# Altium footprint library NUWCBallastBOMFootprints.PcbLib: 22 footprints (part 1 of 2)
Each footprint in its own frame and in the unit in brackets; x right, y up, seen from the top. Pads: shape width x height; smd on the part's side, far side on the other; paste and mask are expansions set on the pad; w line width, h text height; cw(c..) or ccw(c..) is an arc to the next point about the centre after c.
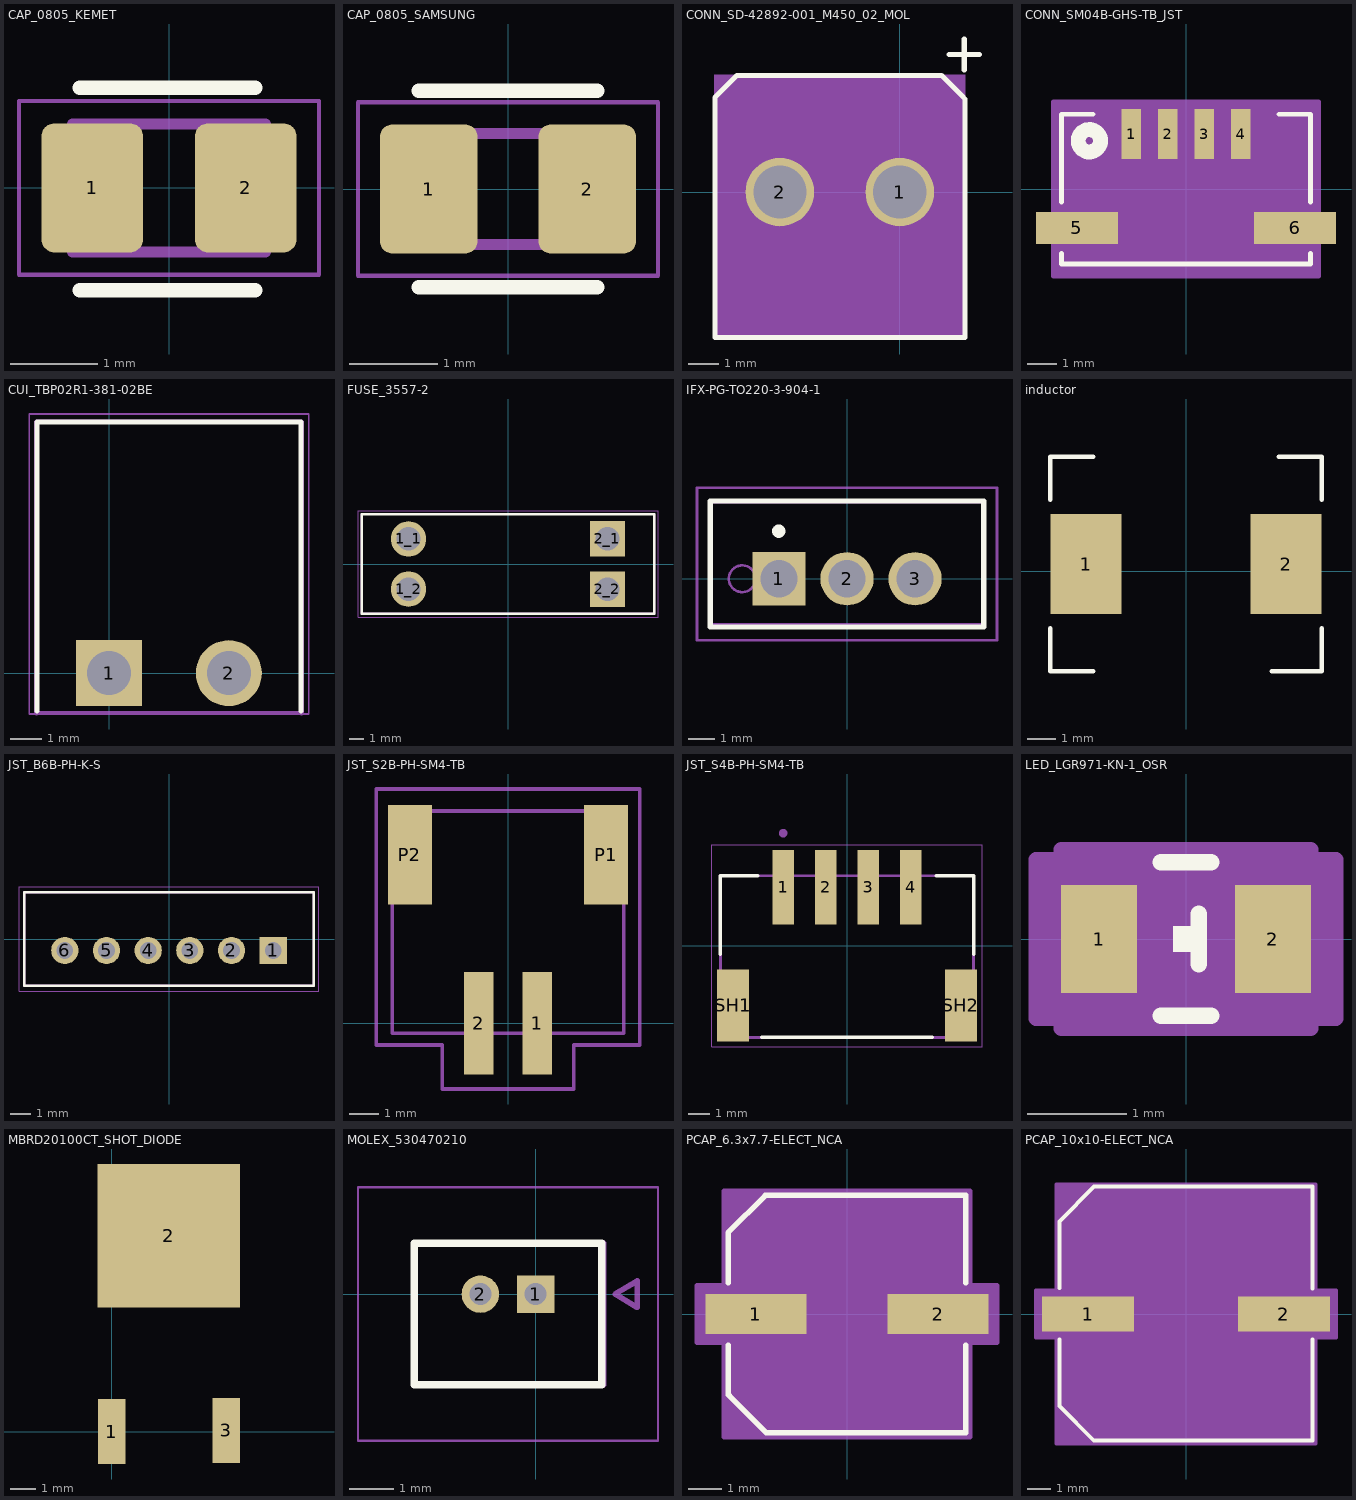
[diagram p0: the footprints below, top view; thin cyan lines are the x and y axes]

## CAP_0805_KEMET [mm]
pads (2):
  rrect25% 1.16x1.47 smd: 1(-0.875,0) 2(0.875,0)
Top Overlay:
  lines w0.165: -1.016,-1.168 0.984,-1.168 ; -1.016,1.143 0.984,1.143
Mechanical 13:
  lines w0: -0.356,-0.737 0.356,-0.737
  lines w0.127: -1.1,-0.73 -1.1,0.73 1.1,0.73 1.1,-0.73 -1.1,-0.73
Mechanical 15:
  lines w0.05: -1.71,-0.99 -1.71,0.99 1.71,0.99 1.71,-0.99 -1.71,-0.99
3D body "step_temp.STEP": height 0.88, standoff 0, extent -1,-0.625 1,0.625

## CAP_0805_SAMSUNG [mm]
pads (2):
  rrect25% 1.11x1.47 smd: 1(-0.9,0) 2(0.9,0)
Top Overlay:
  lines w0.165: -1.016,-1.118 1.016,-1.118 ; -1.016,1.118 1.016,1.118
Mechanical 13:
  lines w0.127: -1,-0.63 1,-0.63 1,0.63 -1,0.63 -1,-0.63
Mechanical 15:
  lines w0.05: -1.705,-0.985 1.705,-0.985 1.705,0.985 -1.705,0.985 -1.705,-0.985
3D body "step_temp.STEP": height 1.45, standoff 0, extent -1,-0.625 1,0.625

## CONN_SD-42892-001_M450_02_MOL [mil]
pads (2):
  round 89 hole 69 paste-99999 mask+0: 1(0,0) 2(-155.91,0)
Top Overlay:
  lines w6.5: 63.74,178.85 103.74,178.85 ; 82.68,123.03 54.13,151.57 -211.61,151.57 -240.16,123.03 -240.16,-188.98 84.65,-188.98 84.65,121.06 ; 83.74,158.85 83.74,198.85
Mechanical 13:
  circle w20: c0,0 r15
  lines w1: -230.95,46.48 75.05,46.48
Mechanical 15:
  region: 85.05,152.56 -240.95,152.56 -240.95,-190.94 85.05,-190.94
3D body "B2P-VH--3DModel-STEP-56544.STEP": height 449.13, standoff -125.67, extent -232.68,-187.01 76.77,147.64

## CONN_SM04B-GHS-TB_JST [mil]
pads (6):
  rect 26x67 smd paste+0 mask+0: 1(-73.82,73.85) 2(-24.61,73.85) 3(24.61,73.85) 4(73.82,73.85)
  rect 110x43 smd paste-55 mask-55: 5(-146.65,-52.14) 6(146.65,-52.14)
Top Overlay:
  circle w20: c-129.92,64.96 r15
  lines w6.5: -167.5,-86.74 -167.5,-100.5 167.5,-100.5 167.5,-86.74 ; -167.5,-17.54 -167.5,100.5 -125,100.5 ; 125,100.5 167.5,100.5 167.5,-17.54
Mechanical 13:
  lines w1: -162.5,-95.5 162.5,-95.5 162.5,95.5 -162.5,95.5 -162.5,-95.5
Mechanical 15:
  region: 178.15,117.35 -178.15,117.35 -178.15,-117.14 178.15,-117.14
  lines w6: -178.15,-117.14 -178.15,117.35 178.15,117.35 178.15,-117.14 -178.15,-117.14
3D body "SM04B-GHS-TB.STEP": height 167.32, standoff 0, extent -162.4,-105.63 162.4,85.32

## CUI_TBP02R1-381-02BE [mm]
pads (2):
  rect 2.1x2.1 / inner round 2.1 / far side rect 2.1x2.1 hole 1.4: 1(0,0)
  round 2.1 hole 1.4: 2(3.81,0)
Top Overlay:
  lines w0.165: -2.3,-1.2 -2.3,8 6.11,8 6.11,-1.2
Mechanical 13:
  lines w0.127: -2.311,-1.27 6.121,-1.27
  lines w0.152: -2.311,-1.27 -2.311,8 6.121,8 6.121,-1.27
Mechanical 15:
  lines w0.05: -2.55,-1.3 -2.55,8.25 6.36,8.25 6.36,-1.3 -2.55,-1.3
3D body "step_temp.STEP": height 7.52, standoff -3.17, extent -2.235,-1.298 6.175,7.902

## FUSE_3557-2 [mm]
height 7.37
pads (4):
  round 2.4 hole 1.6: 1_1(-6.735,1.7) 1_2(-6.735,-1.7)
  rect 2.4x2.4 hole 1.6: 2_1(6.735,1.7) 2_2(6.735,-1.7)
Top Overlay:
  lines w0.165: -9.905,-3.365 9.905,-3.365 9.905,3.365 -9.905,3.365 -9.905,-3.365
Mechanical 13:
  lines w0.152: -9.905,-3.365 9.905,-3.365 9.905,3.378 -9.905,3.378 -9.905,-3.365
Mechanical 15:
  lines w0.05: -10.155,-3.615 -10.155,3.615 10.155,3.615 10.155,-3.615 -10.155,-3.615
3D body "step_temp.STEP": height 7.37, standoff -2.79, extent -9.93,-3.377 9.88,3.353

## IFX-PG-TO220-3-904-1 [mm] "TO,flange mount,2.54 mm pitch, 3 pin, 10.16 mm L X 4.57 mm W X 20.56 mm H body"
height 20.56
pads (3):
  rect 1.99x1.99 hole 1.39: 1(-2.54,0)
  round 1.99 hole 1.39: 2(0,0) 3(2.54,0)
Top Overlay:
  circle w0.25: c-2.55,1.775 r0.125
  lines w0.2: -5.1,-1.8 -5.1,2.9 5.1,2.9 5.1,-1.8 -5.1,-1.8
Mechanical 3:
  text ".DESIGNATOR" at 1,4 h1.2
Mechanical 13:
  circle w0.1: c-3.912,0 r0.5
  lines w0.1: -5.08,-1.71 -5.08,2.86 5.08,2.86 5.08,-1.71 -5.08,-1.71
Mechanical 15:
  lines w0.1: -0.5,0 0.5,0 ; 0,-0.5 0,0.5 ; -5.6,-2.3 -5.6,3.4 5.6,3.4 5.6,-2.3 -5.6,-2.3
3D body "PG-TO220-3-904_Z8B00198139_V06_3D.stp": height 19.84, standoff -10.77, extent -5.156,-1.72 5.156,2.86

## inductor [mm]
pads (2):
  rect 2.5x3.5 smd: 1(-3.5,0.25) 2(3.5,0.25)
Top Overlay:
  lines w0.165: -4.75,-2 -4.75,-3.5 -3.25,-3.5 ; -4.75,2.5 -4.75,4 -3.25,4 ; 3,-3.5 4.75,-3.5 4.75,-2 ; 3.25,4 4.75,4 4.75,2.5
3D body: height 4, standoff 0, extent -4.572,-3.302 4.572,3.81

## JST_B6B-PH-K-S [mm]
pads (6):
  rect 1.308x1.308 / inner round 1.308 / far side rect 1.308x1.308 hole 0.8: 1(5,-0.55)
  round 1.308 hole 0.8: 2(3,-0.55) 3(1,-0.55) 4(-1,-0.55) 5(-3,-0.55) 6(-5,-0.55)
Top Overlay:
  lines w0.127: -6.95,-2.25 -6.95,2.25 6.95,2.25 6.95,-2.25 -6.95,-2.25
Mechanical 13:
  lines w0.127: -6.95,-2.25 6.95,-2.25 6.95,2.25 -6.95,2.25 -6.95,-2.25
Mechanical 15:
  lines w0.05: -7.2,-2.5 7.2,-2.5 7.2,2.5 -7.2,2.5 -7.2,-2.5
3D body "step_temp.STEP": height 6, standoff -3.4, extent -6.95,-2.25 6.95,2.25

## JST_S2B-PH-SM4-TB [mm]
pads (4):
  rect 1x3.5 smd: 1(1,0) 2(-1,0)
  rect 1.5x3.4 smd: P1(3.35,5.75) P2(-3.35,5.75)
Mechanical 13:
  lines w0.127: -3.95,-0.35 3.95,-0.35 3.95,7.25 -3.95,7.25 -3.95,-0.35
Mechanical 15:
  lines w0.127: -4.5,-0.75 -2.25,-0.75 -2.25,-2.25 2.25,-2.25 2.25,-0.75 4.5,-0.75 4.5,8 -4.5,8 -4.5,-0.75
3D body "step_temp.STEP": height 5.7, standoff 0.1, extent -3.95,-1.234 3.95,7.366

## JST_S4B-PH-SM4-TB [mm]
height 5.5
pads (6):
  rect 1x3.5 smd: 1(-3,2.75) 2(-1,2.75) 3(1,2.75) 4(3,2.75)
  rect 1.5x3.4 smd: SH1(-5.35,-2.8) SH2(5.35,-2.8)
Top Overlay:
  lines w0.165: -5.95,-0.4 -5.95,3.3 -4.2,3.3 ; -4,-4.3 4,-4.3 ; 4.2,3.3 5.95,3.3 5.95,-0.4
Mechanical 13:
  circle w0.2: c-3,5.3 r0.1
  lines w0.127: -5.95,-4.3 5.95,-4.3 5.95,3.3 -5.95,3.3 -5.95,-4.3
Mechanical 15:
  lines w0.05: -6.35,-4.75 -6.35,4.75 6.35,4.75 6.35,-4.75 -6.35,-4.75
3D body "step_temp.STEP": height 5.5, standoff -0.1, extent -5.95,-4.3 5.95,4.3

## LED_LGR971-KN-1_OSR [mil]
pads (2):
  rect 30x43 smd paste+0 mask+0: 1(-34.5,0) 2(34.5,0)
Top Overlay:
  region: -5,5 -5,-5 5,-5 5,5
  lines w6.5: -9.98,-30.5 9.98,-30.5 ; -9.98,30.5 9.98,30.5 ; 5,-10 5,10
Mechanical 13:
  lines w1: -39.5,-25.5 -39.5,25.5 39.5,25.5 39.5,-25.5 -39.5,-25.5 ; -39.5,-21.5 -35.5,-21.5 -35.5,21.5 -39.5,21.5 -39.5,-21.5 ; 35.5,-21.5 35.5,21.5 39.5,21.5 39.5,-21.5 35.5,-21.5
Mechanical 15:
  region: -49.5,-31.5 -59.5,-31.5 -59.5,31.5 -49.5,31.5 -49.5,35.5 49.5,35.5 49.5,31.5 59.5,31.5 59.5,-31.5 49.5,-31.5 49.5,-35.5 -49.5,-35.5
  lines w6: -59.5,-31.5 -49.5,-31.5 -49.5,-35.5 49.5,-35.5 49.5,-31.5 59.5,-31.5 59.5,31.5 49.5,31.5 49.5,35.5 -49.5,35.5 -49.5,31.5 -59.5,31.5 -59.5,-31.5
3D body "LED_LGR971-KN-1_OSR.step": height 32.09, standoff 0, extent -38.9,-25.51 38.9,25.51

## MBRD20100CT_SHOT_DIODE [mm] "DIODE ARR SCHOT 100V 10A TO2523"
pads (3):
  rect 1.1x2.6 smd: 1(0,0) 3(4.575,0.05)
  rect 5.7x5.75 smd: 2(2.275,7.85)
3D body: height 2.19, standoff 0, extent -0.508,5.08 5.08,10.668
3D body: height 1, standoff 0, extent -0.508,-0.762 0.508,5.08
3D body: height 1, standoff 0, extent 4.064,-0.762 5.08,5.08

## MOLEX_530470210 [mm]
height 4.2
pads (2):
  rect 0.85x0.85 / inner round 0.85 / far side rect 0.85x0.85 hole 0.5 mask+0.076: 1(0,0)
  round 0.85 hole 0.5 mask+0.076: 2(-1.25,0)
Top Overlay:
  lines w0.165: -2.75,-2.05 1.5,-2.05 1.5,1.15 -2.75,1.15 -2.75,-2.05
Mechanical 13:
  lines w0.127: 1.8,0 2.3,-0.3 2.3,0.3 1.8,0
  lines w0.152: -2.743,-2.05 1.524,-2.05 1.524,1.15 -2.743,1.15 -2.743,-2.05
  text "PTH D0.5 +/- 0.05" at -3.75,-7 h0.5
Mechanical 15:
  lines w0.05: -4.02,-3.32 -4.02,2.42 2.77,2.42 2.77,-3.32 -4.02,-3.32
3D body "530470210.stp": height 4.33, standoff -2.17, extent -2.658,-2.108 1.592,1.092

## PCAP_6.3x7.7-ELECT_NCA [mil] "100uF CAP"
pads (2):
  rect 118x47 smd paste+0 mask+0: 1(-106.5,0) 2(106.5,0)
Top Overlay:
  lines w6.5: -139,-94.27 -139,-36.6 ; -139,36.6 -139,95.25 ; -139,94.97 -139,95.25 ; -138.02,-95.25 -94.27,-139 139,-139 139,-36.6 ; 139,36.6 139,138.56 138.78,138.78 -95.47,138.78 -139,95.25
Mechanical 13:
  lines w1: -134,-67 -67,-134 ; -134,67 -67,134 ; -134,-134 134,-134 134,134 -134,134 -134,-134
Mechanical 15:
  region: -144,-33.5 -175.5,-33.5 -175.5,33.5 -144,33.5 -144,144 144,144 144,33.5 175.5,33.5 175.5,-33.5 144,-33.5 144,-144 -144,-144
  lines w6: -175.5,-33.5 -175.5,33.5 -144,33.5 -144,144 144,144 144,33.5 175.5,33.5 175.5,-33.5 144,-33.5 144,-144 -144,-144 -144,-33.5 -175.5,-33.5
3D body "PCAP_63x77-ELECT_NCA.step": height 317.09, standoff 0, extent -145.51,-134.02 145.51,134.02

## PCAP_10x10-ELECT_NCA [mil]
pads (2):
  rect 154x59 smd paste+0 mask+0: 1(-163.5,0) 2(163.5,0)
Top Overlay:
  lines w6.5: -211.5,-42.6 -211.5,-153.66 -153.54,-211.61 ; -211.5,43.58 -211.5,154.64 -153.54,212.6 211.5,212.6 211.5,42.6 ; -153.43,-211.5 211.5,-211.5 211.5,-42.6
Mechanical 13:
  lines w1: -206.5,-103.25 -103.25,-206.5 ; -206.5,103.25 -103.25,206.5 ; -206.5,-206.5 -206.5,206.5 206.5,206.5 206.5,-206.5 -206.5,-206.5
Mechanical 15:
  region: -216.5,-39.5 -250.5,-39.5 -250.5,39.5 -216.5,39.5 -216.5,216.5 216.5,216.5 216.5,39.5 250.5,39.5 250.5,-39.5 216.5,-39.5 216.5,-216.5 -216.5,-216.5
  lines w6: -250.5,-39.5 -216.5,-39.5 -216.5,-216.5 216.5,-216.5 216.5,-39.5 250.5,-39.5 250.5,39.5 216.5,39.5 216.5,216.5 -216.5,216.5 -216.5,39.5 -250.5,39.5 -250.5,-39.5
3D body "PCAP_10x10-ELECT_NCA.step": height 415.12, standoff 0, extent -220.51,-206.5 220.51,206.5